# Altium integrated library INDUCTOR 12uH SDE0403A-120M 2020 LQH5BPB4R7NT0L.IntLib: 1 symbol
Pins are listed as number, name and electrical type; pins without a type are passive.

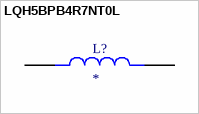
[diagram p0: symbol LQH5BPB4R7NT0L]

## LQH5BPB4R7NT0L
designator L?
Inductor Power Chip Shielded Wirewound 1.2uH 30% 100KHz Ferrite 3.1A 0.0228Ohm DCR 2020 T/R; MP: LQH5BPB4R7NT0L; Package: None; Price: None; Value: *; Availability: Unavailable
footprint IND_LQH5BPB4R7NT0L
pins: 1, 2